# Altium footprint library 1776275-3.PcbLib: 1 footprints
Each footprint in its own frame and in the unit in brackets; x right, y up, seen from the top. Pads: shape width x height; smd on the part's side, far side on the other; paste and mask are expansions set on the pad; w line width, h text height; cw(c..) or ccw(c..) is an arc to the next point about the centre after c.
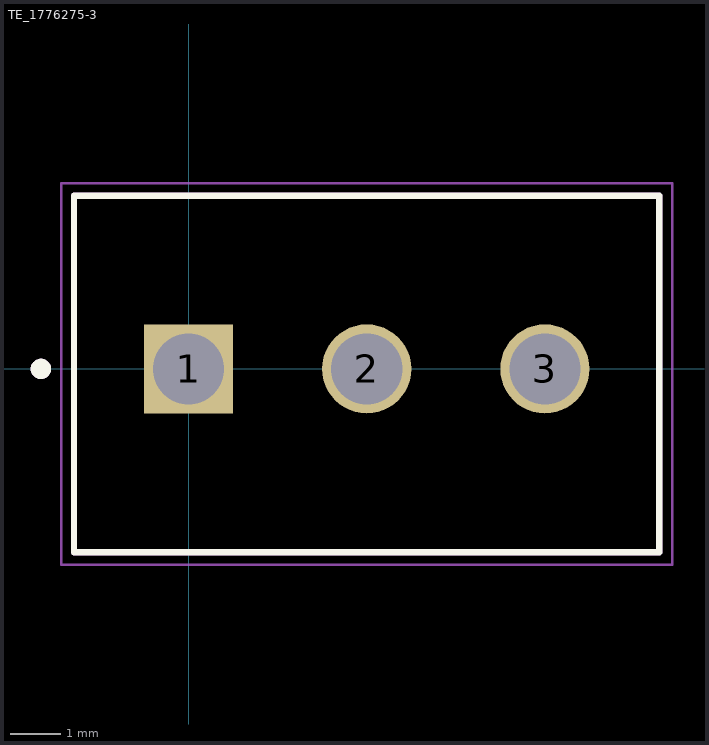
[diagram p0: the footprint, top view; thin cyan lines are the x and y axes]

## TE_1776275-3 [mm]
pads (3):
  rect 1.75x1.75 hole 1.4: 1(0,0)
  round 1.75 hole 1.4: 2(3.5,0) 3(7,0)
Top Overlay:
  circle w0.2: c-2.9,0 r0.1
  lines w0.127: -2.25,-3.6 9.25,-3.6 9.25,3.4 -2.25,3.4 -2.25,-3.6
Mechanical 13:
  circle w0.2: c-2.9,0 r0.1
  lines w0.127: -2.25,-3.6 9.25,-3.6 ; -2.25,-3.6 9.25,-3.6 ; -2.25,-3.6 -2.25,3.4 9.25,3.4 9.25,-3.6
Mechanical 15:
  lines w0.05: -2.5,-3.85 9.5,-3.85 9.5,3.65 -2.5,3.65 -2.5,-3.85
3D body "step_temp.STEP": height 8.4, standoff -4.1, extent -2.194,-3.356 9.306,3.644